# Altium schematic symbol library ALTAIR_PD_FETs.SchLib: 4 symbols
Pins are listed as number, name and electrical type; pins without a type are passive.

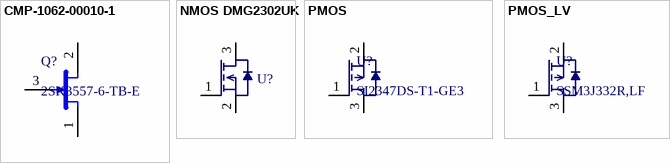
[diagram p0: symbols CMP-1062-00010-1 to PMOS_LV]

## CMP-1062-00010-1
designator Q?, comment 2SK3557-6-TB-E
N-Channel JFET, 15 V, 10 to 20 mA, 35 mS, 3-Pin CP, Pb-Free, Tape and Reel; Manufacturer: On Semiconductor; Channel Polarity: N Channel; IDSS Max (uA): 20000; IDSS Min (uA): 10000; PackageDescription: 3-Pin Small Outline Transistor, Body 2.9 x 1.5 mm, Pitch 0.95 mm; RoHS: Pb-Free; PackageReference: CP-3-318AN_A; ComponentLink2Description: Datasheet; Packing: Tape and Reel; ComponentLink2URL: http://www.onsemi.com/pub_link/Collateral/2SK3557-D.PDF; ComponentLink1URL: http://www.onsemi.com/; PartNumber: 2SK3557-6-TB-E; ComponentLink3URL: http://www.onsemi.com/pub_link/Collateral/EN6619-D.PDF; ComponentLink3Description: Package Specification; Mounting Technology: Surface Mount; ComponentLink1Description: Manufacturer URL
footprint ONSC-CP-3-318AN_A_V (SOT23, 3-Leads, Body 2.9x1.5mm, Pitch 0.95mm)
pins: 1 S, 2 D, 3 G

## NMOS DMG2302UK
designator U?, comment DMG2302UK  (value not drawn)
DIODES INC. Power MOSFET, N Channel, 20 V, 2.8 A, 0.061 ohm, SOT-23, Surface Mount; Manufacturer: Vishay; Manufacturer Part Number: Si7414DN; Manufacturer Part Number 1: DMG2302UK-7; Last Edited By: Russell Burge; Drain to Source Voltage (Vdss): 20V; Continuous Drain Current (ID): 2.8A; Rds On Max: 90mR; Input Capacitance: 130pF; Max Power Dissipation: 660mW; Last Edited On: 3/9/2016; Supplier: Digikey; Supplier Part Number: SI7414DN-T1-E3CT-ND; RoHS: Yes; Category: MOSFETs; Stock 1: 551704; Mount: Surface Mount; Case/Package: TO-236-3; Min Operating Temperature: -55°C; Max Operating Temperature: 150°C; Packaging: Tape and Reel; ComponentLink1URL: http://www.farnell.com/datasheets/2814387.pdf?src-supplier=Farnell; ComponentLink1Description: http://www.farnell.com/datasheets/2814387.pdf?src-supplier=Farnell; ComponentLink2URL: http://www.farnell.com/datasheets/2814387.pdf?src-supplier=Element14; ComponentLink2Description: http://www.farnell.com/datasheets/2814387.pdf?src-supplier=Element14; ComponentLink3URL: https://www.diodes.com/assets/Datasheets/DMG2302UK.pdf?src-supplier=Digi-Key; ComponentLink3Description: https://www.diodes.com/assets/Datasheets/DMG2302UK.pdf?src-supplier=Digi-Key; ComponentLink4URL: http://www.farnell.com/datasheets/2814387.pdf?src-supplier=Newark; ComponentLink4Description: http://www.farnell.com/datasheets/2814387.pdf?src-supplier=Newark; Supplier 1: Digi-Key; Supplier Part Number 1: DMG2302UK-7DICT-ND; Manufacturer 1: Diodes
footprint SOT90-3 LOW DENSITY (SOT90P240X110-3M)
pins: 1 Gate, 2 Source, 3 Drain

## PMOS
designator U?, comment SI2347DS-T1-GE3
MOSFET P-CH 30V 5A SOT23-3; Supplier 1: Avnet; Supplier Part Number 1: SI2347DS-T1-GE3
footprint SOT95P245X110-3N (SOT23, 3-Leads, Body 2.90x2.45mm, Pitch 0.95mm, IPC Medium Density)
pins: 1 Gate, 2 Source, 3 Drain

## PMOS_LV
designator U?, comment SSM3J332R,LF
P-Channel 30 V 6A (Ta) 1W (Ta) Surface Mount SOT-23F; Supplier 1: Avnet; Supplier Part Number 1: SI2347DS-T1-GE3
footprint SOT95P245X110-3N (SOT23, 3-Leads, Body 2.90x2.45mm, Pitch 0.95mm, IPC Medium Density)
pins: 1 Gate, 2 Source, 3 Drain